# Altium schematic symbol library 2020-07-05_04-34-54.SchLib: 2 symbols
Pins are listed as number, name and electrical type; pins without a type are passive.

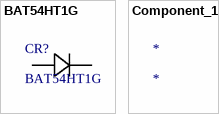
[diagram p0: symbols BAT54HT1G to Component_1]

## BAT54HT1G
designator CR?
No Description Available; Vendor: ON Semiconductor; Built_By: EMA_Cory; SourceLibrary: ON_Semiconductor_2020-05-06; Type: DEV; Datasheet: https://media.digikey.com/pdf/Data%20Sheets/Fairchild%20PDFs/BAT54HT1G_Rev_1.2.pdf; Manufacturer_Part_Number: BAT54HT1G; Copyright: Copyright (C) 2018 Accelerated Designs. All rights reserved; RefDes: RefDes
footprint CR_SOD-323_2L_ON
pins: 1, 2

## Component_1
designator *